# Altium schematic symbol library Schlib.SchLib: 84 symbols (part 1 of 2)
Pins are listed as number, name and electrical type; pins without a type are passive.

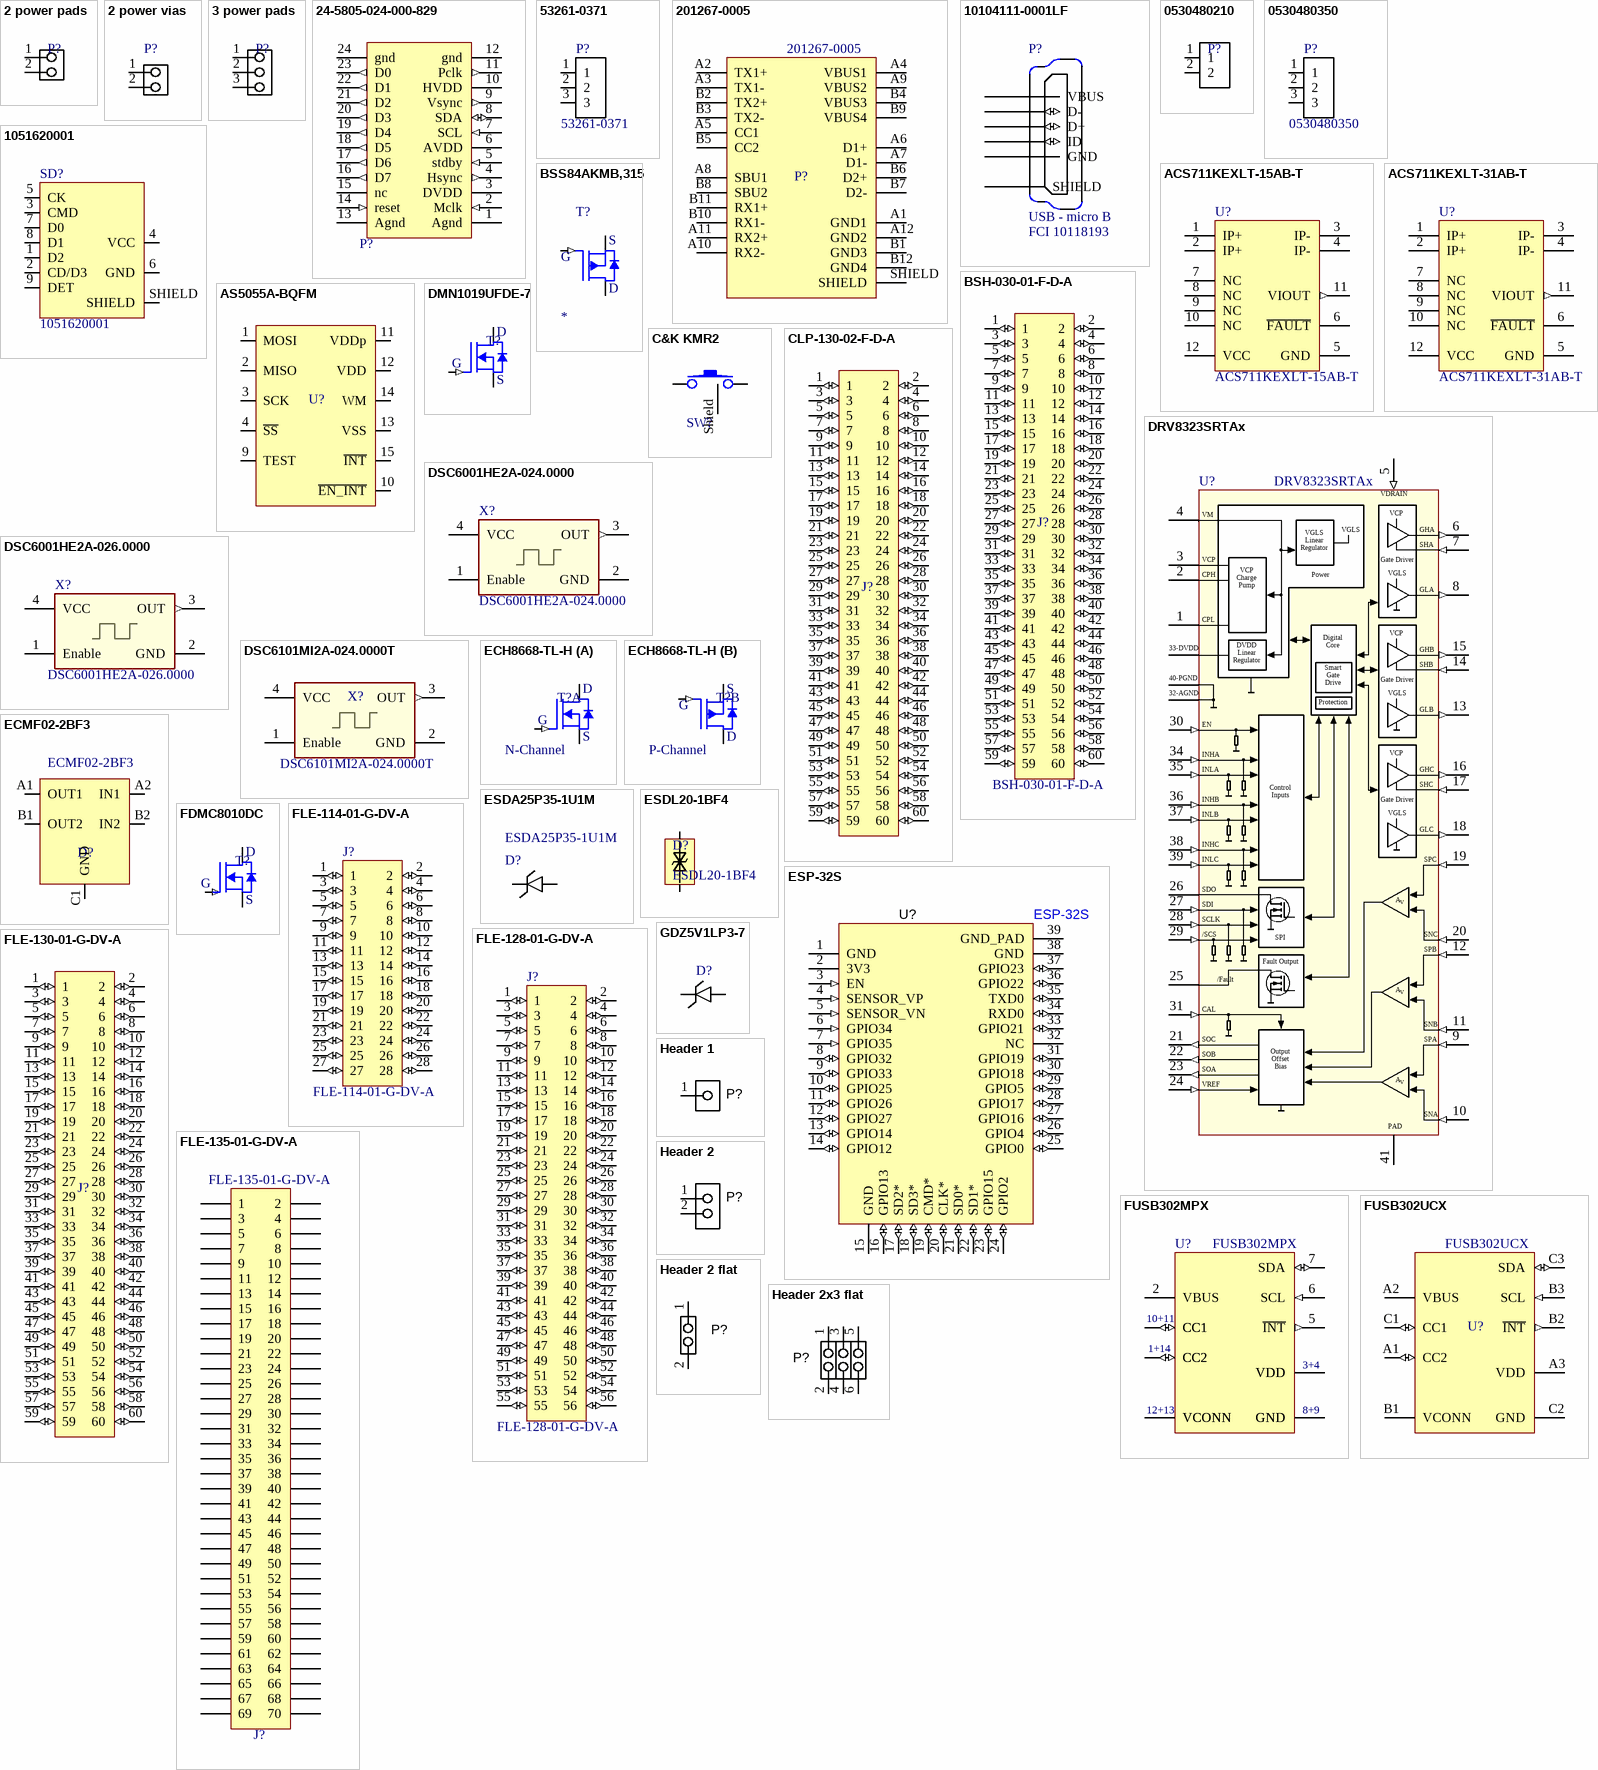
[diagram p0: symbols 2 power pads to Header 2x3 flat]

## 2 power pads
designator P?  (value not drawn)
2-Pin; Manufacturer: Generic Components; Class I: Connector; Revision: July-2002: Re-released for DXP Platform.; Publisher: Altium Limited
footprint PowerPads 2 pins
pins: 1, 2

## 2 power vias
designator P?  (value not drawn)
2 Pins
footprint POWERVIAS_2
pins: 1, 2

## 3 power pads
designator P?  (value not drawn)
3-Pin; Manufacturer: Generic Components; Class I: Connector; Revision: July-2002: Re-released for DXP Platform.; Publisher: Altium Limited
footprint PowerPads 3 pins
pins: 1, 2, 3

## 24-5805-024-000-829
designator P?  (value not drawn)
RCPT 24 pins camera 24-5805-024-000-829; value: 24-5805-024-000-829
footprint Connector 24-5805-024-000-829
pins: 1 Agnd (power), 2 Mclk (in), 3 DVDD (power), 4 Hsync (out), 5 stdby (in), 6 AVDD (power), 7 SCL (in), 8 SDA (io), 9 Vsync (out), 10 HVDD (power), 11 Pclk (out), 12 gnd (power), 13 Agnd (power), 14 reset (in), 15 nc, 16 D7 (out), 17 D6 (out), 18 D5 (out), 19 D4 (out), 20 D3 (out), 21 D2 (out), 22 D1 (out), 23 D0 (out), 24 gnd (power)

## 53261-0371
designator P?  Manufacturer Part Number: 53261-0371  (hidden comment: *)
HEADER, RIGHT ANGLE, SMT, 3WAY; Manufacturer: Molex; Contact Resistance: 20mR; Number of Positions: 3; Connector Type: Blade Pin; Pitch: 1.25mm; Supplier 1: Digi-Key; Stock 1: 47059; Pricing 1: 1 = 1,19000, 10 = 1,04500, 100 = 0,90150, 500 = 0,73756 (USD); RoHS: Yes; Mount: Surface Mount; Color: Natural; Contact Plating: Tin; Contact Material: Bronze; Housing Color: Natural; Housing Material: Nylon; Min Operating Temperature: -40°C; Max Operating Temperature: 85°C; Packaging: Tape and Reel; Termination: Solder; Number of Rows: 1; Number of Contacts: 3; Orientation: Right Angle; Length: 8.9mm; Depth: 5.2mm; Flammability Rating: UL94 V-0; ComponentLink1URL: https://datasheet.ciiva.com/392/532610371-sd-392113.pdf?src-supplier=Digi-Key; ComponentLink1Description: https://datasheet.ciiva.com/392/532610371-sd-392113.pdf?src-supplier=Digi-Key; ComponentLink2URL: https://datasheet.ciiva.com/34302/1302094-34302177.pdf?src-supplier=Jameco; ComponentLink2Description: https://datasheet.ciiva.com/34302/1302094-34302177.pdf?src-supplier=Jameco; ComponentLink3URL: https://datasheet.ciiva.com/30188/1620532610371-pcb-headers-30188291.pdf?src-supplier=Onlinecomponents.com; ComponentLink3Description: https://datasheet.ciiva.com/30188/1620532610371-pcb-headers-30188291.pdf?src-supplier=Onlinecomponents.com; ComponentLink4URL: https://datasheet.ciiva.com/3932/333250532610371-pcb-headers-3932824.pdf?src-supplier=Arrow; ComponentLink4Description: https://datasheet.ciiva.com/3932/333250532610371-pcb-headers-3932824.pdf?src-supplier=Arrow; ComponentLink5URL: https://datasheet.ciiva.com/11750/0900766b8078fc8f-11750607.pdf?src-supplier=RSComponents; ComponentLink5Description: https://datasheet.ciiva.com/11750/0900766b8078fc8f-11750607.pdf?src-supplier=RSComponents; ComponentLink6URL: https://datasheet.ciiva.com/392/532610371-sd-392114.pdf?src-supplier=Digi-Key; ComponentLink6Description: https://datasheet.ciiva.com/392/532610371-sd-392114.pdf?src-supplier=Digi-Key; ComponentLink7URL: https://datasheet.ciiva.com/392/532610371-sd-392115.pdf?src-supplier=Digi-Key; ComponentLink7Description: https://datasheet.ciiva.com/392/532610371-sd-392115.pdf?src-supplier=Digi-Key; ComponentLink8URL: https://datasheet.ciiva.com/48768/0532610371-pcb-headers-48768286.pdf?src-supplier=Avnet; ComponentLink8Description: https://datasheet.ciiva.com/48768/0532610371-pcb-headers-48768286.pdf?src-supplier=Avnet; Supplier Part Number 1: WM7621CT-ND
footprint 0532610371
pins: 1 (power), 2 (power), 3 (power)

## 201267-0005
designator P?  Manufacturer Part Number: 201267-0005  (hidden comment: *)
USB Shielded I/O Receptacle; Type C; Right Angle; Surface Mount; Gold over Nickel; Manufacturer: Molex; Supplier 1: Digi-Key; Stock 1: 7138; Pricing 1: 1=2.77, 10=2.531, 25=2.3876, 50=2.292, 100=2.1965, 250=2.00552, 500=1.86228 (USD); Supplier Part Number 1: WM17992CT-ND
footprint MOLEX_2012670005
pins: A1 GND1, A2 TX1+, A3 TX1-, A4 VBUS1, A5 CC1, A6 D1+, A7 D1-, A8 SBU1, A9 VBUS2, A10 RX2-, A11 RX2+, A12 GND2, B1 GND3, B2 TX2+, B3 TX2-, B4 VBUS3, B5 CC2, B6 D2+, B7 D2-, B8 SBU2, B9 VBUS4, B10 RX1-, B11 RX1+, B12 GND4, SHIELD

## 10104111-0001LF
designator P?, comment Connector Type: USB - micro B  (hidden comment: FCI 10118193)
USB MICRO TYPE B horizontal; Manufacturer: Amphenol FCI; Number of Contacts: 5; Gender: Receptacle; Specifications: USB 2.0; Number of Ports: 1; Current Rating: 1.8A per Contact; Voltage - Rated: 100VAC; Mating Cycles: 10000; Shielding: Shielded; Material Flammability Rating: UL94 V-0; Supplier 1: Digi-Key; RoHS: RoHS Compliant; Category: Connectors, Interconnects; Stock 1: 26909; Pricing 1: 1=0.79, 10=0.744, 25=0.67, 50=0.5956, 100=0.5708, 250=0.52112, 500=0.49632 (USD); Packaging: Cut Tape (CT); Part Status: Active; Mounting Type: Surface Mount, Right Angle; Mounting Feature: Horizontal; Termination: Solder; Features: Solder Retention; Ingress Protection: -; Operating Temperature: -30°C ~ 80°C; Contact Finish: Gold; Shell/Shielding Material: Steel, Stainless; Insulation Color: Gray; ComponentLink1URL: http://portal.fciconnect.com/Comergent//fci/drawing/10104111.pdf; ComponentLink1Description: http://portal.fciconnect.com/Comergent//fci/drawing/10104111.pdf; Supplier Part Number 1: 609-4053-1-ND; value: FCI 10118193; Manufacturer Part Number: FCI 10118193
footprint Receptacle microAB-10104111-0001LF
footprint Receptacle microB_smd/th (Footprint not found)
pins: 1 VBUS (power), 2 D- (io), 3 D+ (io), 4 ID (io), 5 GND (power), SHIELD (power)

## 0530480210
designator P?  (value not drawn)
CONN HEADER 2POS 1.25MM R/A TIN; Manufacturer: Molex, LLC; Manufacturer Part Number: 0530480210; Pitch - Mating: 0.049" (1.25mm); Number of Positions: 2; Number of Positions Loaded: All; Style: Board to Cable/Wire; Shrouding: Shrouded - 4 Wall; Contact Length - Post: 0.091" (2.30mm); Material Flammability Rating: UL94 V-0; Supplier 1: Digi-Key; RoHS: RoHS Compliant; Category: Connectors, Interconnects; Stock 1: 15040; Pricing 1: 1=0.39, 10=0.369, 100=0.258, 500=0.22114, 1000=0.18428, 5000=0.15795, 10000=0.14742 (USD); Packaging: Tray; Part Status: Active; Connector Type: Header; Contact Type: Male Blade; Number of Rows: 1; Row Spacing - Mating: -; Mounting Type: Through Hole, Right Angle; Termination: Solder; Fastening Type: Detent Lock; Contact Length - Mating: -; Overall Contact Length: -; Insulation Height: 0.138" (3.50mm); Contact Shape: Rectangular; Contact Finish - Mating: Tin; Contact Finish Thickness - Mating: -; Contact Finish - Post: Tin; Contact Material: Phosphor Bronze; Insulation Material: Polyamide (PA), Nylon; Features: -; Operating Temperature: -; Ingress Protection: -; Insulation Color: Natural; Current Rating: -; Voltage Rating: -; Mated Stacking Heights: -; Contact Finish Thickness - Post: -; Applications: Automotive, General Purpose, Industrial, Medical; ComponentLink1URL: https://www.molex.com/pdm_docs/sd/530480210_sd.pdf; ComponentLink1Description: https://www.molex.com/pdm_docs/sd/530480210_sd.pdf; Supplier Part Number 1: WM1742-ND
footprint 53048-0210
pins: 1 (power), 2 (power)

## 0530480350
designator P?  Manufacturer Part Number: 0530480350  (hidden comment: *)
CONN HEADER 3POS 1.25MM R/A TIN; Manufacturer: Molex; Supplier 1: Digi-Key; Stock 1: 19832; Pricing 1: 1 = 0,61000, 10 = 0,56900, 100 = 0,43590, 500 = 0,37900, 2500 = 0,28425, 5000 = 0,27478, 10000 = 0,25583 (USD); RoHS: No; Supplier Part Number 1: 0530480350-ND
footprint 0530480350
pins: 1 (power), 2 (power), 3 (power)

## 1051620001
designator SD?  Manufacturer Part Number: 1051620001  (hidden comment: *)
Conn Micro SD Card HDR 8 POS 1.09mm Solder RA SMD Embossed T/R 0.5A; Manufacturer: Molex; Connector Type: Connector; Max Voltage Rating (DC): 5V; Number of Contacts: 8; Supplier 1: Digi-Key; Stock 1: 20361; Pricing 1: 1 = 0,92000, 10 = 0,81300, 100 = 0,70110, 500 = 0,57360, 1000 = 0,50987 (USD); RoHS: Yes; Mount: Surface Mount; Contact Material: Bronze; Contact Plating: Gold; Housing Material: Thermoplastic; Min Operating Temperature: -40°C; Max Operating Temperature: 85°C; Packaging: Tape and Reel; Number of Rows: 1; Package Quantity: 6000; Termination: Solder; Orientation: Right Angle; Number of Circuits: 8; Length: 11.3mm; Depth: 7.6mm; Pitch: 1.09mm; Radiation Hardening: No; ComponentLink1URL: https://datasheet.ciiva.com/29723/1051620101-sd-29723393.pdf?src-supplier=Digi-Key; ComponentLink1Description: https://datasheet.ciiva.com/29723/1051620101-sd-29723393.pdf?src-supplier=Digi-Key; Supplier Part Number 1: WM14405CT-ND
footprint 1051620001-with_card
pins: 1 D2, 2 CD/D3, 3 CMD, 4 VCC, 5 CK, 6 GND, 7 D0, 8 D1, 9 DET, SHIELD

## ACS711KEXLT-15AB-T
designator U?
Hall Effect Linear Current Sensor with Overcurrent Fault Output for <100 V Isolation Applications, 3 to 5.5 V, -15.5 to 15.5 A IP, -40 to 125 degC, 12-Pin QFN (EX), RoHS, Tape and Reel; VCC Max: 5.5 V; IP Max: 15.5 A; VCC Min: 3 V; IP Min: -15.5 A; -3dB Bandwidth: 0.1 MHz; PackageDescription: 12-Pin Quad Flat No-Lead, Body 3 x 3 mm, Height 0.8 mm; ComponentLink1URL: http://www.allegromicro.com/; Packing: Tape and Reel; ComponentLink2URL: http://www.allegromicro.com/~/media/Files/Datasheets/ACS711-Datasheet.ashx?la=en; DatasheetVersion: Rev. 3; PartNumber: ACS711KEXLT-15AB-T; ComponentLink2Description: Datasheet; ComponentLink3URL: http://www.allegromicro.com/~/media/Files/Datasheets/ACS711-Datasheet.ashx?la=en; RoHS: TRUE; ComponentLink1Description: Manufacturer URL; ComponentLink3Description: Package Specification; Temperature Max: 125 degC; Mounting Technology: Surface Mount; Temperature Min: -40 degC
footprint 12-PowerWFQFN
pins: 1 IP+ (power) "Terminals for current being sensed; fused internally", 2 IP+ (power) "Terminals for current being sensed; fused internally", 3 IP- (power) "Terminals for current being sensed; fused internally", 4 IP- (power) "Terminals for current being sensed; fused internally", 5 GND (power) "Signal ground terminal", 6 ~{FAULT} (oc) "Overcurrent fault; active low", 7 NC "No connection; connect to GND for optimal ESD performance.", 8 NC "No connection; connect to GND for optimal ESD performance.", 9 NC "No connection; connect to GND for optimal ESD performance.", 10 NC "No connection; connect to GND for optimal ESD performance.", 11 VIOUT (out) "Analog output signal", 12 VCC (power) "Device power supply terminal"

## ACS711KEXLT-31AB-T
designator U?
Hall Effect Linear Current Sensor with Overcurrent Fault Output for <100 V Isolation Applications, 3 to 5.5 V, -31 to 31 A IP, -40 to 125 degC, 12-Pin QFN (EX), RoHS, Tape and Reel; VCC Max: 5.5 V; IP Max: 31A; VCC Min: 3 V; IP Min: -31 A; -3dB Bandwidth: 0.1 MHz; PackageDescription: 12-Pin Quad Flat No-Lead, Body 3 x 3 mm, Height 0.8 mm; ComponentLink1URL: http://www.allegromicro.com/; Packing: Tape and Reel; ComponentLink2URL: http://www.allegromicro.com/~/media/Files/Datasheets/ACS711-Datasheet.ashx?la=en; DatasheetVersion: Rev. 4; PartNumber: ACS711KEXLT-31AB-T; ComponentLink2Description: Datasheet; ComponentLink3URL: http://www.allegromicro.com/~/media/Files/Datasheets/ACS711-Datasheet.ashx?la=en; RoHS: TRUE; ComponentLink1Description: Manufacturer URL; ComponentLink3Description: Package Specification; Temperature Max: 125 degC; Mounting Technology: Surface Mount; Temperature Min: -40 degC
footprint 12-PowerWFQFN
pins: 1 IP+ (power) "Terminals for current being sensed; fused internally", 2 IP+ (power) "Terminals for current being sensed; fused internally", 3 IP- (power) "Terminals for current being sensed; fused internally", 4 IP- (power) "Terminals for current being sensed; fused internally", 5 GND (power) "Signal ground terminal", 6 ~{FAULT} (oc) "Overcurrent fault; active low", 7 NC "No connection; connect to GND for optimal ESD performance.", 8 NC "No connection; connect to GND for optimal ESD performance.", 9 NC "No connection; connect to GND for optimal ESD performance.", 10 NC "No connection; connect to GND for optimal ESD performance.", 11 VIOUT (out) "Analog output signal", 12 VCC (power) "Device power supply terminal"

## AS5055A-BQFM
designator U?  (value not drawn)
IC ENCODER ROTARY 12BIT 16QFN; Manufacturer: ams; Statut de la pièce: Actif; Pour la mesure: Angle; Technologie: Effet Hall; Angle de rotation - Électrique, mécanique: 0° ~ 360°, Modes continue; Sortie: SPI; Type d’actionneur: Aimant externe, non inclus; Linéarité: ±1,41°; Alimentation en tension: 3 V ~ 3,6 V; Type de montage: Montage en surface; Style de terminaison: Languette CMS (SMT); Température d’utilisation: -40°C ~ 85°C; Supplier 1: Digi-Key; RoHS: RoHS Compliant; Category: Capteurs, transducteurs; Stock 1: 6192; Pricing 1: 1=6.54, 10=5.885, 25=5.362, 100=4.8388, 250=4.44644 (EUR); Plage linéaire: -; Signal de sortie: -; Résistance (Ohms): -; Tolérance de résistance: -; ComponentLink1URL: http://ams.com/eng/content/download/552323/1541717/300455; ComponentLink1Description: http://ams.com/eng/content/download/552323/1541717/300455; Supplier 2: RSComponents
footprint QFN4X4-16 - EPAD unconnected (Quad Flat No Lead, Plastic; 16 Terminals; Body 4 x 4 mm; Pitch 0.65 mm)
pins: 1 MOSI, 2 MISO, 3 SCK, 4 ~{SS}, 9 TEST, 10 ~{EN_INT}, 11 VDDp, 12 VDD, 13 VSS, 14 WM, 15 ~{INT}

## BSH-030-01-F-D-A
designator J?  Manufacturer Part Number: BSH-030-01-F-D-A  (hidden comment: *)
CONN RCPT 60POS 0.5MM SMD; Manufacturer: Samtec Inc.; Connector Type: Socket, Center Strip Contacts; Number of Positions: 60; Pitch: 0.020" (0.50mm); Mated Stacking Heights: 5mm; Supplier 1: Digi-Key; RoHS: RoHS Compliant; Category: Connectors, Interconnects; Stock 1: 637; Pricing 1: 1=5.89, 10=5.376, 25=5.12, 50=4.608, 100=4.096, 250=3.712, 500=3.456, 1000=3.264, 2500=3.136 (USD); Packaging: Tube; Part Status: Active; Mounting Type: Surface Mount; Features: Board Guide; Contact Finish: Gold; Contact Finish Thickness: 3.00µin (0.076µm); Height Above Board: 0.128" (3.25mm); ComponentLink1URL: http://suddendocs.samtec.com/prints/bsh-xxx-01-x-d-xx-xx-mkt.pdf; ComponentLink1Description: http://suddendocs.samtec.com/prints/bsh-xxx-01-x-d-xx-xx-mkt.pdf; Supplier Part Number 1: SAM8749-ND
footprint BSH-030-F-D-A
pins: 1 (io), 2 (io), 3 (io), 4 (io), 5 (io), 6 (io), 7 (io), 8 (io), 9 (io), 10 (io), 11 (io), 12 (io), 13 (io), 14 (io), 15 (io), 16 (io), 17 (io), 18 (io), 19 (io), 20 (io), 21 (io), 22 (io), 23 (io), 24 (io), 25 (io), 26 (io), 27 (io), 28 (io), 29 (io), 30 (io), 31 (io), 32 (io), 33 (io), 34 (io), 35 (io), 36 (io), 37 (io), 38 (io), 39 (io), 40 (io), 41 (io), 42 (io), 43 (io), 44 (io), 45 (io), 46 (io), 47 (io), 48 (io), 49 (io), 50 (io), 51 (io), 52 (io), 53 (io), 54 (io), 55 (io), 56 (io), 57 (io), 58 (io), 59 (io), 60 (io)

## BSS84AKMB,315
designator T?
MOSFET P-CH 50V 230MA 3DFN; Manufacturer: Nexperia; Manufacturer Part Number: BSS84AKMB,315; Supplier 1: Digi-Key; Stock 1: 17379; Pricing 1: 1 = 0,29000, 10 = 0,23700, 25 = 0,19800, 100 = 0,09680, 500 = 0,08074, 1000 = 0,05610, 2500 = 0,05214, 5000 = 0,04510 (USD); RoHS: No; ComponentLink1URL: https://assets.nexperia.com/documents/data-sheet/BSS84AKMB.pdf?src-supplier=Digi-Key; ComponentLink1Description: https://assets.nexperia.com/documents/data-sheet/BSS84AKMB.pdf?src-supplier=Digi-Key; Supplier Part Number 1: 1727-1264-1-ND
footprint DFND1006B-3
pins: 1 G (in), 2 S, 3 D

## C&K KMR2
designator SW?, comment button  (value not drawn)
KMR221GLFS; Manufacturer: Tyco; Manufacturer Nr: 7-188275-6; Preference: 1; Currentie: CHF; Quant_1: 10; Quant_2: 900; Circuit: SPST-NO; Switch Function: Off-Mom; Contact Rating @ Voltage: 0.05A @ 32VDC; Actuator Type: Standard; Actuator Height off PCB, from Pins: 1.90mm; Actuator Orientation: Top Actuated; Outline: 4.60mm x 2.80mm; Illumination: Non-Illuminated; Operating Force: 200gf; Switch Travel: 0.25mm; Mechanical Life: 200,000 Cycles; Footprint Acort: ToDefine; ComponentLink1Description: Datasheet; ComponentLink1URL: http://ecommas.tycoelectronics.com/commerce/DocumentDelivery/DDEController?Action=showdoc&DocId=Customer+Drawing%7F188275%7FR%7Fpdf%7FEnglish%7FC_188275_R.pdf; Supplier: Farnell; Supplier Nr: 1056234; ComponentLink2Description: Farnell link; ComponentLink2URL: http://fr.farnell.com/jsp/displayProduct.jsp?sku=1056234; ROHS: True; Type: SMD; Orientation: Vertical; DateLastUpdate: 2007-12-04 / 09:15:57; Price_1: 1,1; Price_2: 0,924; Supplier 1: Digi-Key; Manufacturer Part Number: KMR221GLFS; Category: Switches; Stock 1: 20549; Pricing 1: 1=0.51, 10=0.493, 25=0.484, 50=0.4656, 100=0.4017, 250=0.3652, 500=0.34694, 1000=0.2739 (USD); Packaging: Cut Tape (CT); Mounting Type: Surface Mount; Termination Style: Gull Wing; Illumination Voltage (Nominal): -; Illumination Type, Color: -; Ingress Protection: -; Features: Grounding Pin; Actuator Material: -; Operating Temperature: -40°C ~ 85°C; ComponentLink3URL: http://www.ck-components.com/index.php?module=media&action=Display&cmpref=14414&lang=en&width=&height=&format=&alt=; ComponentLink3Description: http://www.ck-components.com/index.php?module=media&action=Display&cmpref=14414&lang=en&width=&height=&format=&alt=; Supplier Part Number 1: 401-1427-1-ND
footprint C&K_KMR2 (KMR2 Series  Micro-Miniature Tact Switch)
pins: 1, 2, Shield

## CLP-130-02-F-D-A
designator J?  (value not drawn)
.050" X .050; Manufacturer: Samtec Inc.; Manufacturer Part Number: CLP-130-02-F-D-A; Connector Type: Receptacle; Style: Board to Board; Number of Positions: 60; Number of Positions Loaded: All; Pitch - Mating: 0.050" (1.27mm); Material Flammability Rating: UL94 V-0; Current Rating: 3.3A per Contact; Voltage Rating: 240VAC, 330VDC; Supplier 1: Digi-Key; RoHS: RoHS Compliant; Category: Connectors, Interconnects; Stock 1: 0; Pricing 1: 1=7.54 (USD); Packaging: Tube; Part Status: Active; Contact Type: Female Socket; Row Spacing - Mating: 0.050" (1.27mm); Mounting Type: Surface Mount; Termination: Solder; Fastening Type: Push-Pull; Contact Finish - Mating: Gold; Contact Finish Thickness - Mating: 3.00µin (0.076µm); Insulation Color: Black; Insulation Height: 0.084" (2.14mm); Contact Length - Post: -; Operating Temperature: -55°C ~ 125°C; Contact Finish - Post: Tin; Mated Stacking Heights: -; Ingress Protection: -; Features: Board Guide; Applications: -; Insulation Material: Liquid Crystal Polymer (LCP); Contact Shape: Square; Contact Material: Phosphor Bronze; Contact Finish Thickness - Post: -; ComponentLink1URL: http://suddendocs.samtec.com/prints/clp-1xx-xx-xxx-d-xx-mkt.pdf; ComponentLink1Description: http://suddendocs.samtec.com/prints/clp-1xx-xx-xxx-d-xx-mkt.pdf; Supplier Part Number 1: CLP-130-02-F-D-A-ND
footprint CLP-130-02-F-D-A
pins: 1 (io), 2 (io), 3 (io), 4 (io), 5 (io), 6 (io), 7 (io), 8 (io), 9 (io), 10 (io), 11 (io), 12 (io), 13 (io), 14 (io), 15 (io), 16 (io), 17 (io), 18 (io), 19 (io), 20 (io), 21 (io), 22 (io), 23 (io), 24 (io), 25 (io), 26 (io), 27 (io), 28 (io), 29 (io), 30 (io), 31 (io), 32 (io), 33 (io), 34 (io), 35 (io), 36 (io), 37 (io), 38 (io), 39 (io), 40 (io), 41 (io), 42 (io), 43 (io), 44 (io), 45 (io), 46 (io), 47 (io), 48 (io), 49 (io), 50 (io), 51 (io), 52 (io), 53 (io), 54 (io), 55 (io), 56 (io), 57 (io), 58 (io), 59 (io), 60 (io)

## DMN1019UFDE-7
designator T?  (value not drawn)
MOSFET N CH 12V 11A U-DFN2020-6E; Manufacturer: Diodes Incorporated; Manufacturer Part Number: DMN1019UFDE-7; FET Type: N-Channel; Current - Continuous Drain (Id) @ 25°C: 11A (Ta); Drive Voltage (Max Rds On,  Min Rds On): 1.2V, 4.5V; Rds On (Max) @ Id, Vgs: 10 mOhm @ 9.7A, 4.5V; Vgs(th) (Max) @ Id: 800mV @ 250µA; Vgs (Max): ±8V; Power Dissipation (Max): 690mW (Ta); Supplier 1: Digi-Key; RoHS: RoHS Compliant; Category: Discrete Semiconductor Products; Stock 1: 492; Pricing 1: 1=0.55, 10=0.464, 100=0.3482, 500=0.25538, 1000=0.19734 (USD); Packaging: Cut Tape (CT); Part Status: Active; Technology: MOSFET (Metal Oxide); FET Feature: -; Operating Temperature: -55°C ~ 150°C (TJ); Mounting Type: Surface Mount; Supplier Device Package: U-DFN2020-6 (Type E); Package / Case: 6-UDFN Exposed Pad; ComponentLink1URL: https://www.diodes.com/assets/Datasheets/DMN1019UFDE.pdf; ComponentLink1Description: https://www.diodes.com/assets/Datasheets/DMN1019UFDE.pdf; Supplier Part Number 1: DMN1019UFDE-7DICT-ND
footprint U-DFN2020-6
pins: 1 D, 2 G (in), 3 S

## DRV8323SRTAx
designator U?
6 to 60-V Three-Phase Smart Gate Driver, 3 current sense amplifiers, SPI interface, 6 x 6 × 0.75 mm QFN; Manufacturer: Texas Instruments; PartNumber: DRV8323HRTAR; RefDes: RefDes; Type: DEV; Value: Value
footprint RTA0040B
footprint RTA0040B_NV
pins: 1 CPL, 2 CPH, 3 VCP (power), 4 VM (power), 5 VDRAIN (in), 6 GHA (out), 7 SHA (in), 8 GLA (out), 9 SPA (in), 10 SNA (in), 11 SNB (in), 12 SPB (in), 13 GLB (out), 14 SHB (in), 15 GHB (out), 16 GHC (out), 17 SHC (in), 18 GLC (out), 19 SPC (in), 20 SNC (in), 21 SOC (out), 22 SOB (out), 23 SOA (out), 24 VREF (in), 25 FAULT_N (oc), 26 MODE_SDO, 27 IDRIVE_SDI (in), 28 VDS_SCLK (in), 29 GAIN_SCS_N (in), 30 ENABLE (in), 31 CAL (in), 32 AGND (power), 33 DVDD (power), 34 INHA (in), 35 INLA (in), 36 INHB (in), 37 INLB (in), 38 INHC (in), 39 INLC (in), 40 PGND (power), 41 PAD (power)
text: VGLS; / VGLS / Linear / Regulator; Gate Driver; Power; / VCP / Charge / Pump; 33-DVDD; DVDD / Linear / Regulator; 40-PGND; Smart / Gate / Drive; 32-AGND; Protection; / Digital / Core; EN; / Control / Inputs; SDO; A; SDI; V; SCLK; /SCS; / SPI; /Fault; Fault Output; / Output / Offset / Bias

## DSC6001HE2A-024.0000
designator X?  Manufacturer Part Number: DSC6001HE2A-024.0000  (hidden comment: *)
MEMS OSC XO 24.0000MHZ CMOS SMD; Manufacturer: Microchip; Supplier 1: Digi-Key; Stock 1: 1700; Pricing 1: 1 = 1,07000, 25 = 0,89600, 100 = 0,81370 (USD); RoHS: No; ComponentLink1URL: http://www.microchip.com/mymicrochip/filehandler.aspx?ddocname=en587410&src-supplier=Digi-Key; ComponentLink1Description: http://www.microchip.com/mymicrochip/filehandler.aspx?ddocname=en587410&src-supplier=Digi-Key; Supplier Part Number 1: DSC6001HE2A-024.0000-ND
footprint Oscillator 1.6x1.2mm VFLGA
pins: 1 Enable, 2 GND (power), 3 OUT (out), 4 VCC (power)

## DSC6001HE2A-026.0000
designator X?  Manufacturer Part Number: DSC6001HE2A-026.0000  (hidden comment: *)
26MHz LVCMOS MEMS (Silicon) Oscillator  1.71 V ~ 3.63 V Enable/Disable; Manufacturer: Microchip; Supplier 1: Digi-Key; Stock 1: 797; Pricing 1: 1 = 1,07000, 25 = 0,89600, 100 = 0,81370 (USD); RoHS: No; Supplier Part Number 1: DSC6001HE2A-026.0000-ND
footprint Oscillator 1.6x1.2mm VFLGA
pins: 1 Enable, 2 GND (power), 3 OUT (out), 4 VCC (power)

## DSC6101MI2A-024.0000T
designator X?  Manufacturer Part Number: DSC6101MI2A-024.0000T  (hidden comment: *)
24MHz LVCMOS MEMS (Silicon) Oscillator  1.71 V ~ 3.63 V 3mA Enable/Disable; Manufacturer: Microchip; Frequency Stability: 25ppm; Supplier 1: Digi-Key; Stock 1: 47; Pricing 1: 1=1.06, 50=0.9464 (USD); Frequency: 24MHz; Max Supply Current: 3mA; Ratings: AEC-Q100; Supplier Part Number 1: DSC6101MI2A-024.0000TCT-ND
footprint Oscillator 2x1.6mm VLGA
pins: 1 Enable, 2 GND (power), 3 OUT (out), 4 VCC (power)

## ECH8668-TL-H
designator T?  (value not drawn)
MOSFET N/P-CH 20V 7.5A/5A ECH8; Manufacturer: ON Semiconductor; Manufacturer Part Number: ECH8668-TL-H; FET Type: N and P-Channel; FET Feature: Logic Level Gate; Current - Continuous Drain (Id) @ 25°C: 7.5A, 5A; Rds On (Max) @ Id, Vgs: 17 mOhm @ 4A, 4.5V; Gate Charge (Qg) (Max) @ Vgs: 10.8nC @ 4.5V; Input Capacitance (Ciss) (Max) @ Vds: 1060pF @ 10V; Power - Max: 1.5W; Supplier 1: Digi-Key; RoHS: RoHS Compliant; Category: Discrete Semiconductor Products; Stock 1: 3111; Pricing 1: 1=0.93, 10=0.811, 100=0.6259, 500=0.46362, 1000=0.37089 (USD); Packaging: Cut Tape (CT); Part Status: Active; Drain to Source Voltage (Vdss): 20V; Vgs(th) (Max) @ Id: -; Operating Temperature: 150°C (TJ); Mounting Type: Surface Mount; Package / Case: 8-SMD, Flat Lead; Supplier Device Package: 8-ECH; ComponentLink1URL: http://www.onsemi.com/pub/Collateral/ECH8668-D.PDF; ComponentLink1Description: http://www.onsemi.com/pub/Collateral/ECH8668-D.PDF; Supplier Part Number 1: ECH8668-TL-HOSCT-ND
footprint 8-SMD Flat lead
part A pins: 1 S, 2 G (in), 6 D
part B pins: 3 S, 4 G (in), 5 D
part A text: N-Channel
part B text: P-Channel

## ECMF02-2BF3
designator D?  Manufacturer Part Number: ECMF02-2BF3  (hidden comment: *)
IC ESD FILTER COM MODE 5FLIPCHIP; Manufacturer: STMicroelectronics; Number of Lines: 2; Frequency: 2.2GHz; DC Resistance (DCR): 3R; Supplier 1: Digi-Key; Stock 1: 11040; Pricing 1: 1=0.65, 10=0.56, 100=0.4182, 500=0.32858, 1000=0.2539 (USD); Mount: Surface Mount; Case/Package: SMD/SMT; Min Operating Temperature: -40°C; Max Operating Temperature: 85°C; Package Quantity: 5000; Packaging: Tape and Reel; Termination: Flat; Radiation Hardening: No; Lead Free: Lead Free; ComponentLink1URL: http://www.st.com/st-web-ui/static/active/en/resource/technical/document/data_brief/DM00047758.pdf; ComponentLink1Description: http://www.st.com/st-web-ui/static/active/en/resource/technical/document/data_brief/DM00047758.pdf; ComponentLink2URL: http://www.st.com/content/ccc/resource/technical/document/data_brief/b5/64/4d/9e/10/b2/49/ce/DM00047758.pdf/files/DM00047758.pdf/jcr:content/translations/en.DM00047758.pdf; ComponentLink2Description: http://www.st.com/content/ccc/resource/technical/document/data_brief/b5/64/4d/9e/10/b2/49/ce/DM00047758.pdf/files/DM00047758.pdf/jcr:content/translations/en.DM00047758.pdf; Supplier Part Number 1: 497-12953-1-ND
footprint ECMF02-2BF3 (USB DP-DM line protection)
pins: A1 OUT1, A2 IN1, B1 OUT2, B2 IN2, C1 GND

## ESDA25P35-1U1M
designator D?  Manufacturer Part Number: ESDA25P35-1U1M  (hidden comment: *)
TVS DIODE 22V 41V 1610; Manufacturer: STMicroelectronics; Supplier 1: Digi-Key; Stock 1: 80; Pricing 1: 1 = 0,46000, 10 = 0,37300, 100 = 0,25380, 500 = 0,19034, 1000 = 0,14276, 2500 = 0,13086 (USD); RoHS: No; ComponentLink1URL: http://www.farnell.com/datasheets/2236209.pdf?src-supplier=Farnell; ComponentLink1Description: http://www.farnell.com/datasheets/2236209.pdf?src-supplier=Farnell; ComponentLink2URL: http://www.st.com/content/ccc/resource/technical/document/datasheet/group3/e4/43/53/b9/4e/8a/40/bb/DM00312034/files/DM00312034.pdf/jcr:content/translations/en.DM00312034.pdf?src-supplier=Digi-Key; ComponentLink2Description: http://www.st.com/content/ccc/resource/technical/document/datasheet/group3/e4/43/53/b9/4e/8a/40/bb/DM00312034/files/DM00312034.pdf/jcr:content/translations/en.DM00312034.pdf?src-supplier=Digi-Key; ComponentLink3URL: http://www.farnell.com/datasheets/2236209.pdf?src-supplier=Newark; ComponentLink3Description: http://www.farnell.com/datasheets/2236209.pdf?src-supplier=Newark; Supplier Part Number 1: 497-16913-1-ND
footprint 0603 - diode
pins: 1 C, 2 C

## ESDL20-1BF4
designator D?
footprint 0201 USB protection diodes (USB PROTECTION ST)
pins: 1, 2

## ESP-32S
designator U?
Wi-Fi BT BLE MCU Module; MANUFACTURER: TEXAS INSTRUMENTS; POPULATE: Y; CONSIGNED: Y; VALUE: ESP-32S
footprint ESP-32S
pins: 1 GND (power), 2 3V3 (power), 3 EN (in), 4 SENSOR_VP (in), 5 SENSOR_VN (in), 6 GPIO34 (in), 7 GPIO35 (in), 8 GPIO32 (io), 9 GPIO33 (io), 10 GPIO25 (io), 11 GPIO26 (io), 12 GPIO27 (io), 13 GPIO14 (io), 14 GPIO12 (io), 15 GND (power), 16 GPIO13 (io), 17 SD2* (io), 18 SD3* (io), 19 CMD* (io), 20 CLK* (io), 21 SD0* (io), 22 SD1* (io), 23 GPIO15 (io), 24 GPIO2 (io), 25 GPIO0 (io), 26 GPIO4 (io), 27 GPIO16 (io), 28 GPIO17 (io), 29 GPIO5 (io), 30 GPIO18 (io), 31 GPIO19 (io), 32 NC, 33 GPIO21 (io), 34 RXD0 (io), 35 TXD0 (io), 36 GPIO22 (io), 37 GPIO23 (io), 38 GND (power), 39 GND_PAD (power)

## FDMC8010DC
designator T?  (value not drawn)
Manufacturer: ON Semiconductor / Fairchild; Manufacturer Part Number: FDMC8010DC; Element Configuration: Dual; Supplier 1: Digi-Key; Stock 1: 36; Pricing 1: 1 = 1,29000, 10 = 1,15600, 100 = 0,90120, 500 = 0,74448, 1000 = 0,58774 (USD); RoHS: No; Mount: Surface Mount; Weight: 0.039g; Min Operating Temperature: -55°C; Max Operating Temperature: 150°C; Supplier Part Number 1: FDMC8010DCOSCT-ND
footprint PQFN8 3.3X3.3
pins: 1 S, 2 S, 3 S, 4 G (in), 5 D, 6 D, 7 D, 8 D, 9 D

## FLE-114-01-G-DV-A
designator J?  Manufacturer Part Number: FLE-114-01-G-DV-A  (hidden comment: *)
.050 MICRO STRIPS; Manufacturer: Samtec; Number of Contacts: 28; Gender: Female; Pitch: 1.27mm; Supplier 1: Digi-Key; Stock 1: 0; Pricing 1: 1 = 4,47000 (USD); RoHS: Yes; Contact Plating: Gold; Number of Rows: 2; Termination: Solder; ComponentLink1URL: http://suddendocs.samtec.com/prints/fle-1xx-xx-xx-dv-x-mkt.pdf?src-supplier=Digi-Key; ComponentLink1Description: http://suddendocs.samtec.com/prints/fle-1xx-xx-xx-dv-x-mkt.pdf?src-supplier=Digi-Key; ComponentLink2URL: http://cloud.samtec.com/catalog_english/FLE_SM.PDF?src-supplier=Avnet; ComponentLink2Description: http://cloud.samtec.com/catalog_english/FLE_SM.PDF?src-supplier=Avnet; Supplier Part Number 1: FLE-114-01-G-DV-A-ND
footprint FLE-114-01-G-DV-A
pins: 1 (io), 2 (io), 3 (io), 4 (io), 5 (io), 6 (io), 7 (io), 8 (io), 9 (io), 10 (io), 11 (io), 12 (io), 13 (io), 14 (io), 15 (io), 16 (io), 17 (io), 18 (io), 19 (io), 20 (io), 21 (io), 22 (io), 23 (io), 24 (io), 25 (io), 26 (io), 27 (io), 28 (io)

## FLE-128-01-G-DV-A
designator J?  Manufacturer Part Number: FLE-128-01-G-DV-A  (hidden comment: *)
.050 MICRO STRIPS; Manufacturer: Samtec; Number of Contacts: 56; Gender: Female; Contact Resistance: 15mR; Pitch: 1.27mm; Supplier 1: Digi-Key; Stock 1: 0; Pricing 1: 125 = 5,40800 (USD); RoHS: Yes; Contact Plating: Gold; Contact Material: Bronze; Housing Color: Black; Housing Material: Polymer; Min Operating Temperature: -55°C; Max Operating Temperature: 125°C; Termination: Solder; Number of Rows: 2; Packaging: Tape and Reel; Orientation: Straight; Length: 35.67mm; Depth: 3.33mm; ComponentLink1URL: http://components.arrow.com/part/dataview/0323_04389637?src-supplier=Arrow+Europe; ComponentLink1Description: http://components.arrow.com/part/dataview/0323_04389637?src-supplier=Arrow+Europe; ComponentLink2URL: http://cloud.samtec.com/catalog_english/FLE_SM.PDF?src-supplier=Avnet; ComponentLink2Description: http://cloud.samtec.com/catalog_english/FLE_SM.PDF?src-supplier=Avnet; Supplier Part Number 1: FLE-128-01-G-DV-A-K-TR-ND
footprint FLE-128-01-G-DV-A
pins: 1 (io), 2 (io), 3 (io), 4 (io), 5 (io), 6 (io), 7 (io), 8 (io), 9 (io), 10 (io), 11 (io), 12 (io), 13 (io), 14 (io), 15 (io), 16 (io), 17 (io), 18 (io), 19 (io), 20 (io), 21 (io), 22 (io), 23 (io), 24 (io), 25 (io), 26 (io), 27 (io), 28 (io), 29 (io), 30 (io), 31 (io), 32 (io), 33 (io), 34 (io), 35 (io), 36 (io), 37 (io), 38 (io), 39 (io), 40 (io), 41 (io), 42 (io), 43 (io), 44 (io), 45 (io), 46 (io), 47 (io), 48 (io), 49 (io), 50 (io), 51 (io), 52 (io), 53 (io), 54 (io), 55 (io), 56 (io)

## FLE-130-01-G-DV-A
designator J?  (value not drawn)
.050 MICRO STRIPS; Manufacturer: Samtec Inc.; Manufacturer Part Number: FLE-130-01-G-DV-A; Connector Type: Receptacle; Style: Board to Board or Cable; Number of Positions: 60; Number of Positions Loaded: All; Pitch - Mating: 0.050" (1.27mm); Current Rating: 2A per Contact; Supplier 1: Digi-Key; RoHS: RoHS Compliant; Category: Connectors, Interconnects; Stock 1: 179; Pricing 1: 1=7.89, 10=7.203, 100=5.488, 500=4.6305, 1000=4.37325 (USD); Packaging: Tube; Part Status: Active; Contact Type: Female Socket; Row Spacing - Mating: 0.050" (1.27mm); Mounting Type: Surface Mount; Termination: Solder; Fastening Type: Push-Pull; Contact Finish - Mating: Gold; Contact Finish Thickness - Mating: 10.0µin (0.25µm); Insulation Color: Black; Insulation Height: 0.172" (4.37mm); Contact Length - Post: -; Operating Temperature: -55°C ~ 125°C; Material Flammability Rating: -; Contact Finish - Post: Gold; Mated Stacking Heights: -; Ingress Protection: -; Features: Board Guide; Voltage Rating: -; Applications: -; Insulation Material: Liquid Crystal Polymer (LCP); Contact Shape: Square; Contact Material: Phosphor Bronze; Contact Finish Thickness - Post: 3.00µin (0.076µm); ComponentLink1URL: http://suddendocs.samtec.com/prints/fle-1xx-xx-xx-dv-x-mkt.pdf; ComponentLink1Description: http://suddendocs.samtec.com/prints/fle-1xx-xx-xx-dv-x-mkt.pdf; Supplier Part Number 1: SAM10493-ND
footprint FLE-130-01-G-DV-A
pins: 1 (io), 2 (io), 3 (io), 4 (io), 5 (io), 6 (io), 7 (io), 8 (io), 9 (io), 10 (io), 11 (io), 12 (io), 13 (io), 14 (io), 15 (io), 16 (io), 17 (io), 18 (io), 19 (io), 20 (io), 21 (io), 22 (io), 23 (io), 24 (io), 25 (io), 26 (io), 27 (io), 28 (io), 29 (io), 30 (io), 31 (io), 32 (io), 33 (io), 34 (io), 35 (io), 36 (io), 37 (io), 38 (io), 39 (io), 40 (io), 41 (io), 42 (io), 43 (io), 44 (io), 45 (io), 46 (io), 47 (io), 48 (io), 49 (io), 50 (io), 51 (io), 52 (io), 53 (io), 54 (io), 55 (io), 56 (io), 57 (io), 58 (io), 59 (io), 60 (io)

## FLE-135-01-G-DV-A
designator J?
.050 MICRO STRIPS; Manufacturer: Samtec Inc.; Manufacturer Part Number: FLE-130-01-G-DV-A; Connector Type: Receptacle; Style: Board to Board or Cable; Number of Positions: 60; Number of Positions Loaded: All; Pitch - Mating: 0.050" (1.27mm); Current Rating: 2A per Contact; Supplier 1: Digi-Key; RoHS: RoHS Compliant; Category: Connectors, Interconnects; Stock 1: 179; Pricing 1: 1=7.89, 10=7.203, 100=5.488, 500=4.6305, 1000=4.37325 (USD); Packaging: Tube; Part Status: Active; Contact Type: Female Socket; Row Spacing - Mating: 0.050" (1.27mm); Mounting Type: Surface Mount; Termination: Solder; Fastening Type: Push-Pull; Contact Finish - Mating: Gold; Contact Finish Thickness - Mating: 10.0µin (0.25µm); Insulation Color: Black; Insulation Height: 0.172" (4.37mm); Contact Length - Post: -; Operating Temperature: -55°C ~ 125°C; Material Flammability Rating: -; Contact Finish - Post: Gold; Mated Stacking Heights: -; Ingress Protection: -; Features: Board Guide; Voltage Rating: -; Applications: -; Insulation Material: Liquid Crystal Polymer (LCP); Contact Shape: Square; Contact Material: Phosphor Bronze; Contact Finish Thickness - Post: 3.00µin (0.076µm); ComponentLink1URL: http://suddendocs.samtec.com/prints/fle-1xx-xx-xx-dv-x-mkt.pdf; ComponentLink1Description: http://suddendocs.samtec.com/prints/fle-1xx-xx-xx-dv-x-mkt.pdf; Supplier Part Number 1: SAM10493-ND
footprint FLE-135-01-G-DV-A
pins: 1, 2, 3, 4, 5, 6, 7, 8, 9, 10, 11, 12, 13, 14, 15, 16, 17, 18, 19, 20, 21, 22, 23, 24, 25, 26, 27, 28, 29, 30, 31, 32, 33, 34, 35, 36, 37, 38, 39, 40, 41, 42, 43, 44, 45, 46, 47, 48, 49, 50, 51, 52, 53, 54, 55, 56, 57, 58, 59, 60, 61, 62, 63, 64, 65, 66, 67, 68, 69, 70

## FUSB302MPX
designator U?  Manufacturer Part Number: FUSB302MPX  (hidden comment: *)
USB Type-C Port Controller 9-Pin MLP T/R; Manufacturer: ON Semiconductor / Fairchild; Operating Supply Current: 25uA; Supplier 1: Digi-Key; Stock 1: 0; Mount: Surface Mount; Number of Pins: 14; Contact Plating: Copper,Silver,Tin; Min Operating Temperature: -40°C; Max Operating Temperature: 85°C; Packaging: Tape and Reel; Interface: USB; Lead Free: Lead Free; Supplier Part Number 1: FUSB302MPXTR-ND
footprint PQFN50P250X250X60_HS-15L (PQFN, 14-Leads, Body 2.50x2.50mm, Pitch 0.50mm, Thermal Pad 1.45x1.45mm, IPC High Density)
pins: 1 CC2 (io), 2 VBUS (power), 3 VDD (power), 4 VDD (power), 5 ~{INT} (out), 6 SCL (in), 7 SDA (io), 8 GND (power), 9 GND (power), 10 CC1 (io), 11 CC1 (io), 12 VCONN (power), 13 VCONN (power), 14 CC2 (io)
text: 10+11; 1+14; 3+4; 12+13; 8+9

## FUSB302UCX
designator U?  Manufacturer Part Number: FUSB302UCX  (hidden comment: *)
USB Type-C Port Controller 9-Pin WLCSP T/R; Manufacturer: ON Semiconductor / Fairchild; Operating Supply Current: 25uA; Supplier 1: Digi-Key; Stock 1: 0; Mount: Surface Mount; Number of Pins: 9; Weight: 0.0373333g; Contact Plating: Copper,Silver,Tin; Min Operating Temperature: -40°C; Max Operating Temperature: 85°C; Packaging: Tape and Reel; Interface: USB; Lead Free: Lead Free; Supplier Part Number 1: FUSB302UCXCT-ND
footprint WLCSP9
pins: A1 CC2 (io), A2 VBUS (power), A3 VDD (power), B1 VCONN (power), B2 ~{INT} (out), B3 SCL (in), C1 CC1 (io), C2 GND (power), C3 SDA (io)

## GDZ5V1LP3-7
designator D?  (value not drawn)
DIODE ZENER 5.1V 250MW 2DFN; Manufacturer: Diodes; Manufacturer Part Number: GDZ5V1LP3-7; Tolerance: 5%; Max Reverse Leakage Current: 200nA; Element Configuration: Single; Supplier 1: Digi-Key; Stock 1: 50190; Pricing 1: 1=0.37, 10=0.303, 100=0.1607, 500=0.1057, 1000=0.07188 (USD); Mount: Surface Mount; Case/Package: DFN; Number of Pins: 2; Min Operating Temperature: -55°C; Max Operating Temperature: 150°C; Packaging: Tape and Reel; Max Power Dissipation: 250mW; Package Quantity: 10000; Zener Voltage: 5.1V; Zener Current: 200nA; Voltage Tolerance: 5%; Peak Reverse Current: 200nA; Power Rating: 250mW; Length: 0.62mm; Height: 0.3mm; Width: 0.32mm; Radiation Hardening: No; REACH SVHC: No SVHC; ComponentLink1URL: https://www.diodes.com/assets/Datasheets/GDZxVxLP3.pdf; ComponentLink1Description: https://www.diodes.com/assets/Datasheets/GDZxVxLP3.pdf; Supplier Part Number 1: GDZ5V1LP3-7DICT-ND
footprint X3-DFN0603-2
pins: 1 C, 2 C

## Header 1
designator P?  (value not drawn)
LatestRevisionDate: 17-Jul-2002; LatestRevisionNote: Re-released for DXP Platform.; Publisher: Altium Limited
footprint HEADER1x1-2.54
pins: 1

## Header 2
designator P?  (value not drawn)
boot 413; LatestRevisionDate: 17-Jul-2002; LatestRevisionNote: Re-released for DXP Platform.; Publisher: Altium Limited
footprint HEADER1x2-2.54
pins: 1, 2

## Header 2 flat
designator P?  (value not drawn)
LatestRevisionDate: 17-Jul-2002; LatestRevisionNote: Re-released for DXP Platform.; Publisher: Altium Limited
footprint HEADER1x2-2.54
pins: 1, 2

## Header 2x3 flat
designator P?  (value not drawn)
LatestRevisionDate: 17-Jul-2002; LatestRevisionNote: Re-released for DXP Platform.; Publisher: Altium Limited
footprint HEADER3x2-2.54
pins: 1, 2, 3, 4, 5, 6

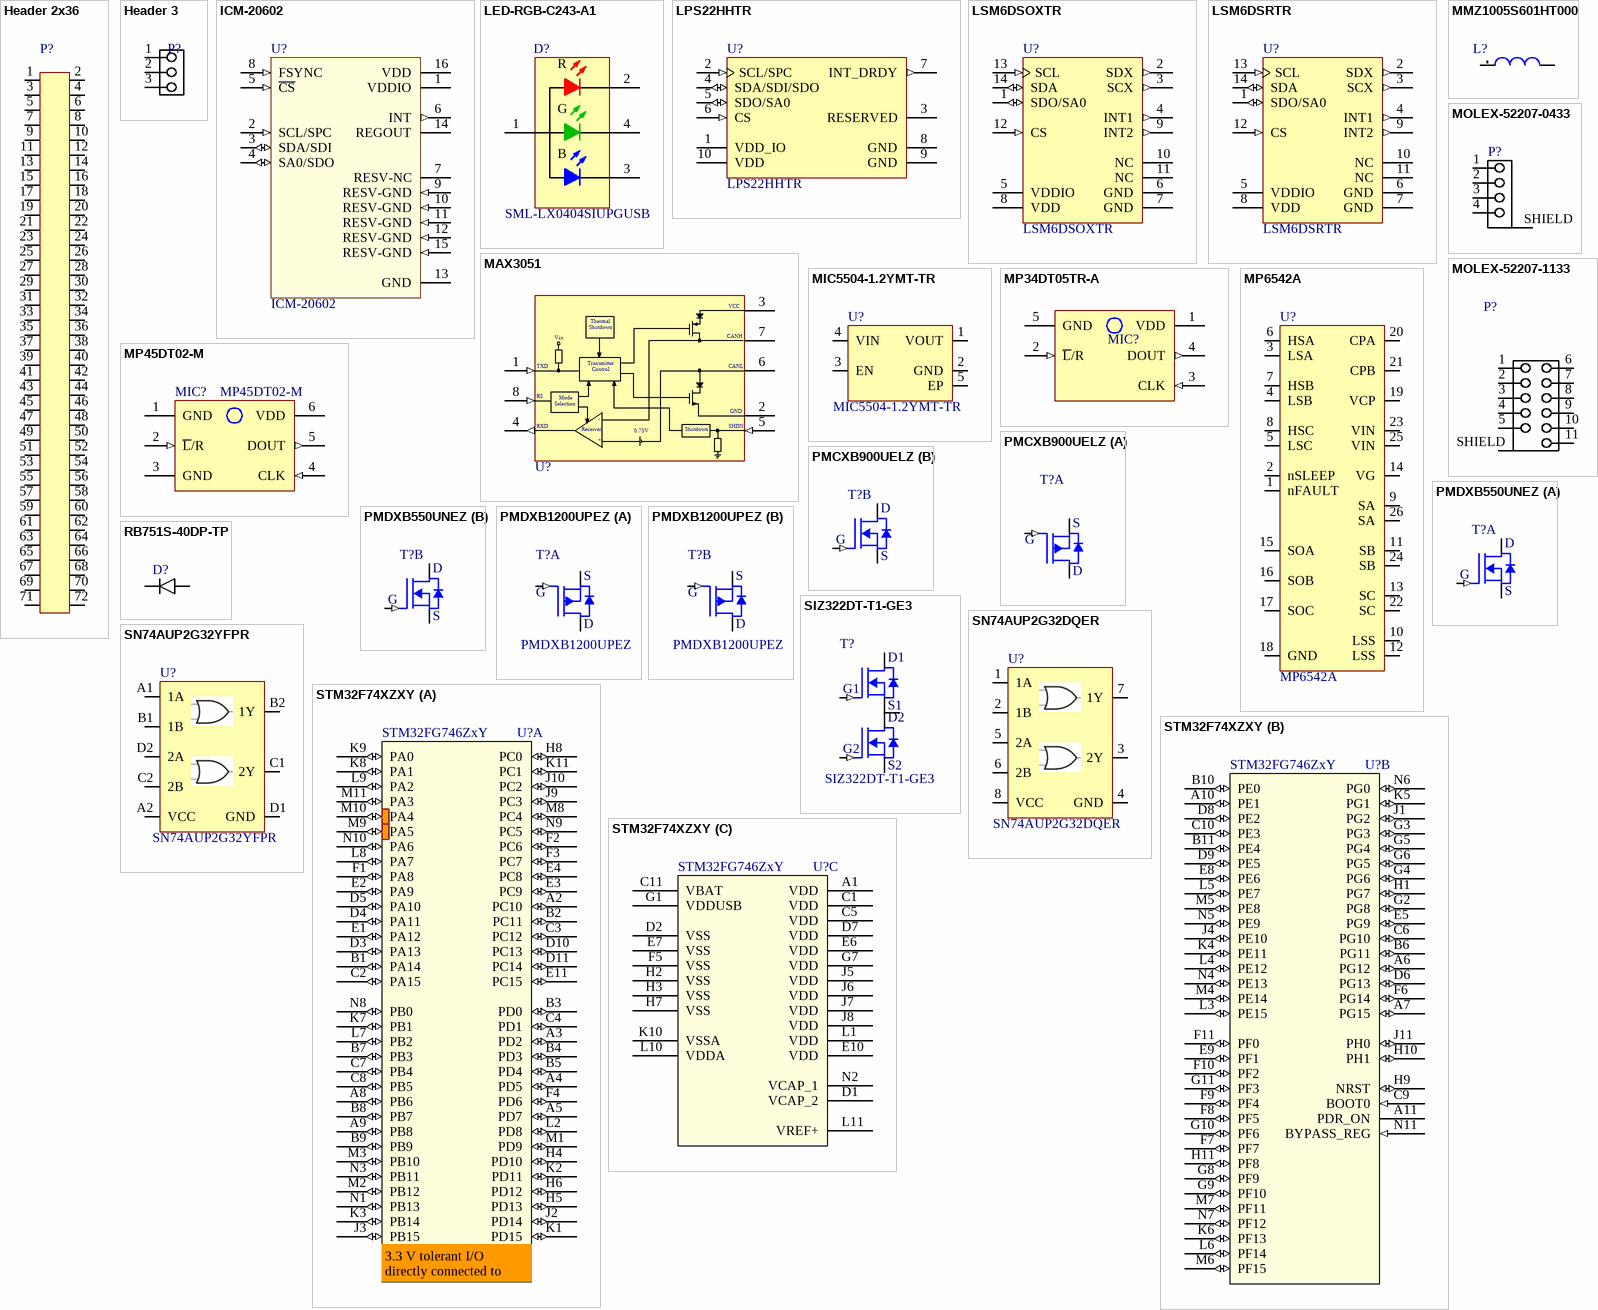
[diagram p1: symbols Header 2x36 to STM32F74XZXY]

## Header 2x36
designator P?  (value not drawn)
footprint HEADER2x36-2.54 (Connector; Header; 50 Positions)
pins: 1, 2, 3, 4, 5, 6, 7, 8, 9, 10, 11, 12, 13, 14, 15, 16, 17, 18, 19, 20, 21, 22, 23, 24, 25, 26, 27, 28, 29, 30, 31, 32, 33, 34, 35, 36, 37, 38, 39, 40, 41, 42, 43, 44, 45, 46, 47, 48, 49, 50, 51 50, 52 51, 53 51, 54 52, 55 52, 56 53, 57 53, 58 54, 59 54, 60 55, 61 55, 62 56, 63 56, 64 57, 65 57, 66 58, 67 58, 68 59, 69 59, 70 60, 71 60, 72 61

## Header 3
designator P?  (value not drawn)
Header, 3-Pin; Manufacturer: Generic Components; Class I: Connector; Revision: July-2002: Re-released for DXP Platform.; Publisher: Altium Limited
footprint HEADER1X3-2.54
pins: 1, 2, 3

## ICM-20602
designator U?
IMU ACCEL/GYRO/TEMP I2C/SPI LGA; Manufacturer: TDK InvenSense; MF: TDK-InvenSense; Sensor Type: Accelerometer, Gyroscope, Temperature, 6 Axis; Output Type: I²C, SPI; Digi-Key_Purchase_URL: https://www.digikey.ch/product-detail/en/tdk-invensense/ICM-20602/1428-1060-1-ND/5872875?utm_source=snapeda&utm_medium=aggregator&utm_campaign=symbol; SnapEDA_Link: https://www.snapeda.com/parts/ICM-20602/TDK-InvenSense/view-part/?ref=snap; Package: PQFN-16 TDK-InvenSense; Digi-Key_Part_Number: 1428-1060-1-ND; Value: *; Supplier 1: Digi-Key; Manufacturer Part Number: ICM-20602; RoHS: RoHS Compliant; Category: Sensors, Transducers; Stock 1: 12892; Pricing 1: 1=5.72, 5=5.05, 10=4.46, 25=3.6184, 50=3.1978, 100=3.1136, 500=2.60866, 1000=2.44035 (USD); Part Status: Active; Operating Temperature: -40°C ~ 85°C (TA); ComponentLink1URL: http://www.invensense.com/wp-content/uploads/2016/10/DS-000176-ICM-20602-v1.0.pdf; ComponentLink1Description: http://www.invensense.com/wp-content/uploads/2016/10/DS-000176-ICM-20602-v1.0.pdf; MP: ICM-20602; Supplier Part Number 1: 1428-1060-1-ND
footprint PQFN50P300X300X80-16N
pins: 1 VDDIO (power) "Digital I/O supply voltage", 2 SCL/SPC (in) "I2C serial clock (SCL); SPI serial clock (SPC)", 3 SDA/SDI (io) "I2C serial data (SDA); SPI serial data input (SDI)", 4 SA0/SDO (io) "I2C slave address LSB (SA0); SPI serial data output (SDO)", 5 ~{CS} (in) "Chip select (0 = SPI mode; 1 = I2C mode)", 6 INT (out) "Interrupt digital output (totem pole or open-drain)", 7 RESV-NC "Reserved. Do not connect", 8 FSYNC (in) "Synchronization digital input (optional). Connect to GND if unused", 9 RESV-GND (in) "Reserved. Connect to GND", 10 RESV-GND (in) "Reserved. Connect to GND", 11 RESV-GND (in) "Reserved. Connect to GND", 12 RESV-GND (in) "Reserved. Connect to GND", 13 GND (power) "Connect to GND", 14 REGOUT "Regulator filter capacitor connection", 15 RESV-GND (in) "Reserved. Connect to GND", 16 VDD (power) "Power Supply"

## LED-RGB-C243-A1
designator D?, comment SML-LX0404SIUPGUSB
QuasarBrite LED RGB (Full color 0404 SMD LED), 3x 2mA; Manufacturer: Lumex; Preference: 1; Currentie: CHF; Size: 0404; Footprint Acort: ToDefine; ComponentLink1URL: http://www.lumex.com/en/products/detail/leds7/surface_mount4/0404_package/; ComponentLink1Description: Manufacturer link; Supplier 1: Mouser; Supplier Part Number 1: 696-LX0404SIUPGUSB; ComponentLink2Description: Supplier link; ComponentLink2URL: http://www.mouser.ch/ProductDetail/Lumex/SML-LX0404SIUPGUSB/?qs=%2fha2pyFaduhVJD5ZRhDg%2ft7CXH9HmwqzW0VFa3tCuDCfVLKu7L8ofw8YssAqq7i9; Manufacturer Nr: SML-LX0404SIUPGUSB; ROHS: True; DateLastUpdate: 2015-06-26 / 09:49:20
footprint LUMEX_SML-LX0404SIUPGUSB
signal-integrity model Guessed Model (IC Model Details Guessed by Setup Helper)
pins: 1 AC, 2 RC, 3 BC, 4 GC
text: R; G; B

## LPS22HHTR
designator U?  Manufacturer Part Number: LPS22HHTR  (hidden comment: *)
CONSUMER MEMS; Manufacturer: STMicroelectronics; Supplier 1: Digi-Key; Stock 1: 8271; Pricing 1: 1 = 3,50000, 10 = 3,14200, 100 = 2,57400, 500 = 2,19120, 1000 = 1,84800 (USD); RoHS: No; ComponentLink1URL: https://www.st.com/resource/en/datasheet/lps22hh.pdf?src-supplier=Digi-Key; ComponentLink1Description: https://www.st.com/resource/en/datasheet/lps22hh.pdf?src-supplier=Digi-Key; ComponentLink2URL: https://www.st.com/resource/en/data_brief/lps22hh.pdf?src-supplier=Digi-Key; ComponentLink2Description: https://www.st.com/resource/en/data_brief/lps22hh.pdf?src-supplier=Digi-Key; Supplier Part Number 1: 497-18182-1-ND
footprint STM_HLGA_10L
pins: 1 VDD_IO (power) "Power supply for I/O pins", 2 SCL/SPC (in), 3 RESERVED (power) "Connect to GND", 4 SDA/SDI/SDO (io), 5 SDO/SA0 (io), 6 CS (in) "SPI enable; I2C/SPI mode selection; (1: SPI idle mode / I2C communication enabled; 0: SPI communication mode / I2C disabled)", 7 INT_DRDY (out) "Interrupt or Data Ready", 8 GND (power) "0 V supply", 9 GND (power) "0 V supply", 10 VDD (power) "Power supply"

## LSM6DSOXTR
designator U?  Manufacturer Part Number: LSM6DSOXTR  (hidden comment: *)
Manufacturer: STMicroelectronics; Supplier 1: Digi-Key; Stock 1: 2573; Pricing 1: 1 = 4,91000, 10 = 4,41300, 100 = 3,61530, 500 = 3,07764, 1000 = 2,59560 (USD); RoHS: No; Supplier Part Number 1: 497-18367-1-ND
footprint STM_LGA_14L
pins: 1 SDO/SA0 (io), 2 SDX (out) "Connect to VDDIO or GND/I2C serial data master (MSDA)", 3 SCX (out) "Connect to VDDIO or GND/I2C serial clock master (MSCL)", 4 INT1 (out) "Programmable interrupt 1", 5 VDDIO (power) "Power supply for I/O pins", 6 GND (power) "0 V supply", 7 GND (power) "0 V supply", 8 VDD (power) "Power supply", 9 INT2 (out) "Programmable interrupt 2  (INT2) / Data enable (DEN)/Programmable interrupt 2 (INT2)/  Data enable (DEN)/  I  2C master external synchronization  signal (MDRDY)", 10 NC "Leave unconnected", 11 NC "Leave unconnected", 12 CS (in) "I2C/SPI mode selection", 13 SCL (in) "I2C serial clock (SCL)  SPI serial port clock (SPC)", 14 SDA (io) "I2C serial data (SDA)  SPI serial data input (SDI)  3-wire interface serial data output  (SDO)"

## LSM6DSRTR
designator U?  Manufacturer Part Number: LSM6DSRTR  (hidden comment: *)
Manufacturer: STMicroelectronics; Supplier 1: Digi-Key; Stock 1: 0; Pricing 1: 1 = 6,55000, 10 = 5,88300, 100 = 4,82040, 500 = 4,10352, 1000 = 3,46080 (USD); RoHS: No; Supplier Part Number 1: 497-19479-1-ND
footprint STM_LGA_14L
pins: 1 SDO/SA0 (io), 2 SDX (out) "Connect to VDDIO or GND/I2C serial data master (MSDA)", 3 SCX (out) "Connect to VDDIO or GND/I2C serial clock master (MSCL)", 4 INT1 (out) "Programmable interrupt 1", 5 VDDIO (power) "Power supply for I/O pins", 6 GND (power) "0 V supply", 7 GND (power) "0 V supply", 8 VDD (power) "Power supply", 9 INT2 (out) "Programmable interrupt 2  (INT2) / Data enable (DEN)/Programmable interrupt 2 (INT2)/  Data enable (DEN)/  I  2C master external synchronization  signal (MDRDY)", 10 NC "Leave unconnected", 11 NC "Leave unconnected", 12 CS (in) "I2C/SPI mode selection", 13 SCL (in) "I2C serial clock (SCL)  SPI serial port clock (SPC)", 14 SDA (io) "I2C serial data (SDA)  SPI serial data input (SDI)  3-wire interface serial data output  (SDO)"

## MAX3051
designator U?, comment MAX3051EKA-T  (value not drawn)
+3.3V, 1Mbps, Low-Supply-Current CAN Transceiver; Manufacturer: Maxim; Preference: 1; Currentie: CHF; Size: SOT23-8; Footprint Acort: ToDefine; Manufacturer Nr: MAX3051EKA-T; ROHS: True; DateLastUpdate: 2012-06-17 / 01:26:47; Supplier 1: Digi-Key; Supplier Part Number 1: MAX3051EKA+TCT-ND
footprint SOT65P3-8
pins: 1 TXD (in) "Transmit Data Input. TXD is a CMOS/TTL-compatible input from a CAN controller. TXD has an  internal 75kO pullup resistor.", 2 GND (power) "Ground", 3 VCC (power) "Supply Voltage. Bypass VCC to GND with a 0.1µF capacitor.", 4 RXD (out) "Receive Data Output. RXD is a CMOS/TTL-compatible output.", 5 SHDN (in) "Shutdown Input, CMOS/TTL-Compatible. Drive SHDN high to put the MAX3051 in shutdown.  SHDN has an internal 75kO pulldown resistor to GND.", 6 CANL "CAN Bus Line Low", 7 CANH "CAN Bus Line High", 8 RS (in) "Mode-Select Input. Drive RS low or connect to GND for high-speed operation. Connect a resistor  between RS and GND to control output slope. Drive RS high to put into standby mode (see the  Mode Selection section)."
text: Thermal; Shutdown; Vcc; Transmitter; Control; Mode; Selection; -; Receiver; 0.75V; +

## MIC5504-1.2YMT-TR
designator U?  Manufacturer Part Number: MIC5504-1.2YMT-TR  (hidden comment: *)
IC REG LINEAR 1.2V 300MA 4TDFN; Manufacturer: Microchip; Dropout Voltage: 160mV; Number of Regulators: 1; Min Current Limit: 400mA; Supplier 1: Digi-Key; Stock 1: 2603; Pricing 1: 1 = 0,16000, 25 = 0,13400, 100 = 0,12360 (USD); RoHS: Yes; Mount: Surface Mount; Min Operating Temperature: -40°C; Max Operating Temperature: 125°C; Packaging: Tape and Reel; Output Voltage: 1.2V; Output Current: 300mA; ComponentLink1URL: http://www.microchip.com/mymicrochip/filehandler.aspx?ddocname=en580292&src-supplier=Digi-Key; ComponentLink1Description: http://www.microchip.com/mymicrochip/filehandler.aspx?ddocname=en580292&src-supplier=Digi-Key; Supplier Part Number 1: MIC5504-1.2YMT-CT-ND
footprint TDFN-4
pins: 1 VOUT, 2 GND, 3 EN, 4 VIN, 5 EP

## MMZ1005S601HT000
designator L?  (value not drawn)
FERRITE BEAD 600 OHM 0402 1LN; Manufacturer: TDK; Manufacturer Part Number: MMZ1005S601HT000; Supplier 1: Digi-Key; Stock 1: 33440; Pricing 1: 1 = 0,10000, 10 = 0,07300, 25 = 0,06600, 50 = 0,05940, 100 = 0,04360, 250 = 0,03168, 500 = 0,02904, 1000 = 0,02508, 5000 = 0,01980 (USD); RoHS: No; ComponentLink1URL: https://product.tdk.com/info/en/catalog/datasheets/beads_commercial_signal_mmz1005-h_en.pdf?src-supplier=Digi-Key; ComponentLink1Description: https://product.tdk.com/info/en/catalog/datasheets/beads_commercial_signal_mmz1005-h_en.pdf?src-supplier=Digi-Key; Supplier Part Number 1: 445-175172-1-ND
footprint 0402 inductor
pins: 1, 2

## MOLEX-52207-0433
designator P?
footprint Molex 52207-0433
pins: 1, 2, 3, 4, SHIELD

## MOLEX-52207-1133
designator P?
footprint Molex 52207-1133
pins: 1, 2, 3, 4, 5, 6, 7, 8, 9, 10, 11, SHIELD

## MP34DT05TR-A
designator MIC?  (value not drawn)
MEMS AUD MIC SENSOR OMNI 4HCLGA; Manufacturer: STMicroelectronics; Manufacturer Part Number: MP34DT05TR-A; Output Type: Digital, PDM; Direction: Omnidirectional; Sensitivity: -26dB ±3dB @ 94dB SPL; S/N Ratio: 64dB; Port Location: Top; Shape: Rectangular; Supplier 1: Digi-Key; RoHS: Request Inventory Verification; Category: Audio Products; Stock 1: 3088; Pricing 1: 1=1.41, 10=1.117, 100=0.8855, 500=0.7535, 1000=0.704 (USD); Packaging: Cut Tape (CT); Part Status: Active; Type: MEMS (Silicon); Ratings: -; Termination: Solder Pads; Height (Max): 0.043" (1.10mm); ComponentLink1URL: http://www.st.com/content/ccc/resource/technical/document/datasheet/group3/c7/90/d3/f6/b7/e7/40/c8/DM00415595/files/DM00415595.pdf/jcr:content/translations/en.DM00415595.pdf; ComponentLink1Description: http://www.st.com/content/ccc/resource/technical/document/datasheet/group3/c7/90/d3/f6/b7/e7/40/c8/DM00415595/files/DM00415595.pdf/jcr:content/translations/en.DM00415595.pdf; Supplier Part Number 1: 497-17809-1-ND
footprint MIC-PACK_MP34DT05-A(Primary)
pins: 1 VDD (power), 2 ~{L}/R (in), 3 CLK (in), 4 DOUT (out), 5 GND (power)

## MP45DT02-M
designator MIC?
MEMS Omnidirectional Digital Microphone; Value: MP45DT02-M
footprint HLGA-6L (LGA 6-Pins, Body 3.8x4.8mm (max), Pitch 1.65mm)
pins: 1 GND (power), 2 ~{L}/R (in), 3 GND (power), 4 CLK (in), 5 DOUT (out), 6 VDD (power)

## MP6542A
designator U?  Manufacturer Part Number: MP6542A  (hidden comment: *)
11A integrated 3 half-bridges for brushless motor; Manufacturer: Monolithic Power Systems
footprint FCQFN6x6-26
pins: 1 nFAULT, 2 nSLEEP, 3 LSA, 4 LSB, 5 LSC, 6 HSA, 7 HSB, 8 HSC, 9 SA, 10 LSS, 11 SB, 12 LSS, 13 SC, 14 VG, 15 SOA, 16 SOB, 17 SOC, 18 GND, 19 VCP, 20 CPA, 21 CPB, 22 SC, 23 VIN, 24 SB, 25 VIN, 26 SA